# Altium footprint library 晶振.PcbLib: 10 footprints
Each footprint in its own frame and in the unit in brackets; x right, y up, seen from the top. Pads: shape width x height; smd on the part's side, far side on the other; paste and mask are expansions set on the pad; w line width, h text height; cw(c..) or ccw(c..) is an arc to the next point about the centre after c.
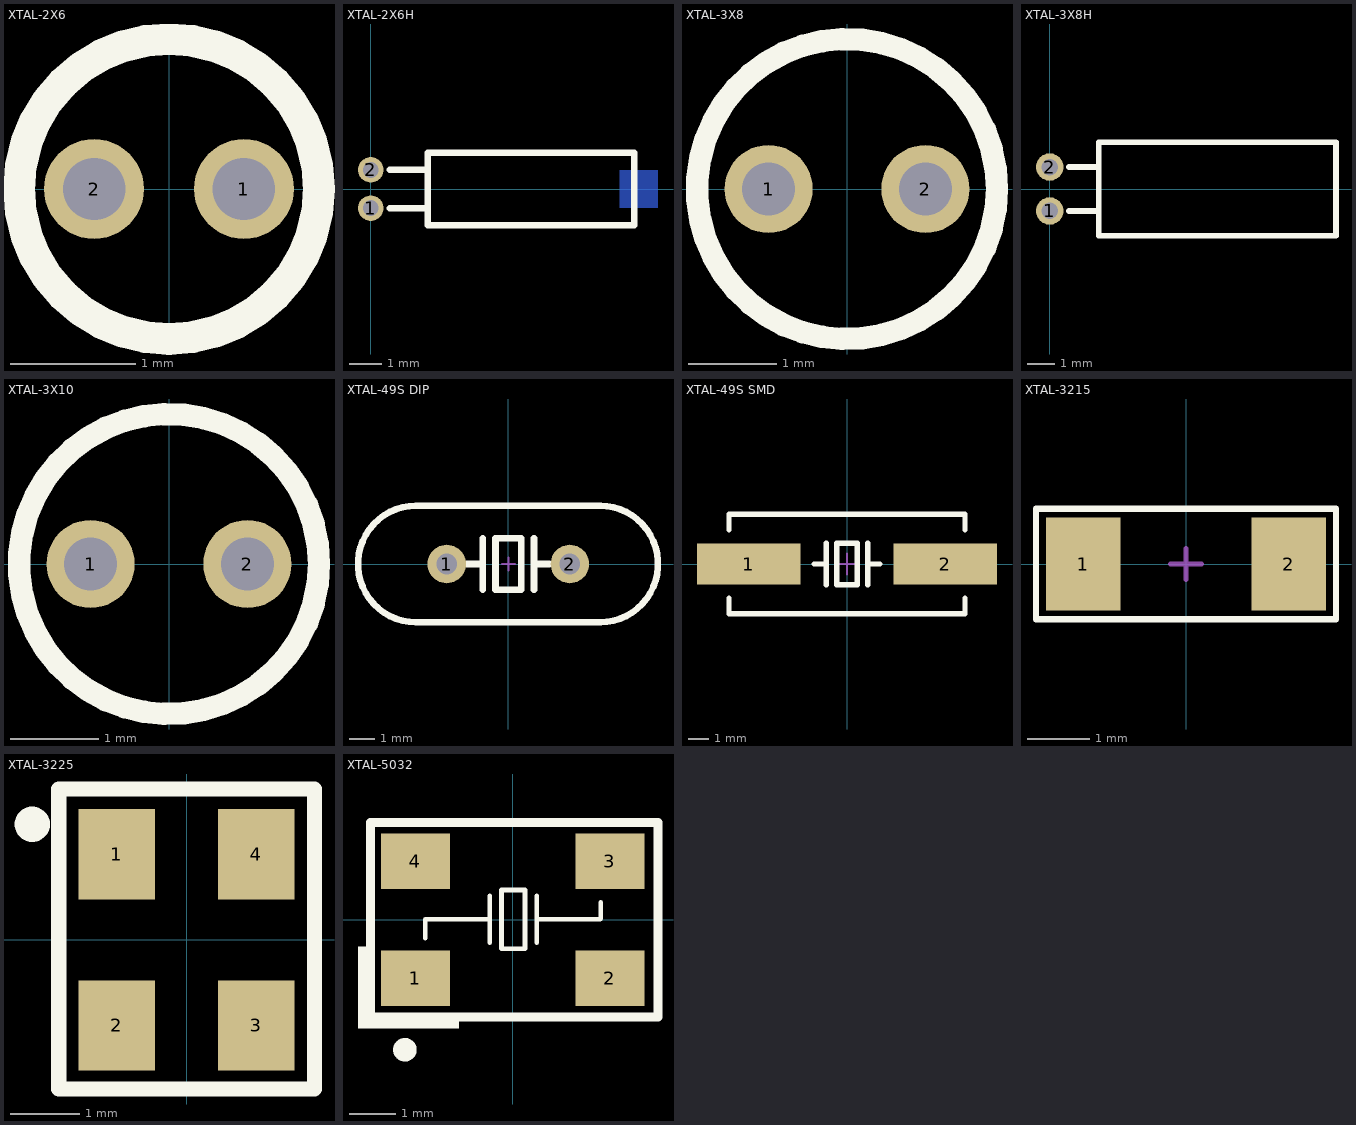
[diagram p0: the footprints below, top view; thin cyan lines are the x and y axes]

## XTAL-2X6 [mm]
pads (2):
  round 0.8 hole 0.5: 1(0.6,0) 2(-0.6,0)
Top Overlay:
  circle w0.254: c0,0 r1.2
3D body "2x6.STEP": height 6.4, standoff -4.9, extent -1.05,-1.05 1.05,1.05

## XTAL-2X6H [mm]
pads (2):
  round 0.8 hole 0.5: 1(0,-0.6) 2(0,0.6)
Bottom Layer:
  rectangle: 7.8,-0.6 9,0.6
Top Overlay:
  lines w0.203: 0.6,-0.6 1.778,-0.6 ; 0.6,0.6 1.778,0.6 ; 1.778,-1.143 8.255,-1.143 8.255,1.143 1.778,1.143 1.778,-1.143
3D body "2x6H.STEP": height 1.9, standoff -2.15, extent -0.18,-1.075 8.18,1.025

## XTAL-3X8 [mm]
pads (2):
  round 1 hole 0.6: 1(-0.889,0) 2(0.889,0)
Top Overlay:
  circle w0.254: c0,0 r1.7
3D body "3x8.STEP": height 8.4, standoff -4.9, extent -1.5,-1.5 1.5,1.5

## XTAL-3X8H [mm]
pads (2):
  round 1 hole 0.6: 1(0,-0.8) 2(0,0.8)
Top Overlay:
  lines w0.203: 0.7,-0.8 1.778,-0.8 ; 0.7,0.8 1.778,0.8 ; 1.778,-1.7 1.778,1.7 10.414,1.7 10.414,-1.7 1.778,-1.7
3D body "3x6h.STEP": height 2.9, standoff -3.1, extent -0.18,-1.5 10.18,1.5

## XTAL-3X10 [mm]
pads (2):
  round 1 hole 0.6: 1(-0.889,0) 2(0.889,0)
Top Overlay:
  circle w0.254: c0,0 r1.7
3D body "3x10.STEP": height 10.2, standoff -4.9, extent -1.5,-1.5 1.5,1.5

## XTAL-49S DIP [mm]
pads (2):
  round 1.5 hole 0.8: 1(-2.4,0) 2(2.4,0)
Top Overlay:
  lines w0.254: -1.6,0 -1,0 ; -1,-1 -1,1 ; 1,-1 1,1 ; 1,0 1.6,0 ; 3.575,-2.275 ccw(c3.556,0) 3.575,2.275 ; 3.6,-2.275 -3.6,-2.275 cw(c-3.581,0) -3.6,2.275 3.6,2.275 ; -0.5,-1 0.5,-1 0.5,1 -0.5,1 -0.5,-1
Mechanical 15:
  lines w0.076: -0.254,0 0.254,0 ; 0,-0.254 0,0.254
3D body "SW3dPS-HP49US.STEP": height 3.5, standoff -4, extent -5.675,-2.35 5.675,2.3

## XTAL-49S SMD [mm]
pads (2):
  rect 5x2 smd: 1(-4.75,0) 2(4.75,0)
Top Overlay:
  lines w0.254: -5.7,-1.65 -5.7,-2.4 5.7,-2.4 5.7,-1.65 ; -5.7,1.65 -5.7,2.4 5.7,2.4 5.7,1.65 ; -1.6,0 -1,0 ; -1,-1 -1,1 ; 1,-1 1,1 ; 1,0 1.6,0 ; -0.5,-1 0.5,-1 0.5,1 -0.5,1 -0.5,-1
Mechanical 15:
  lines w0.076: -0.508,0 0.508,0 ; 0,-0.508 0,0.508
3D body "User Library-hc49_cystal.STEP": height 4, standoff 0, extent -6.7,-2.462 6.7,2.438

## XTAL-3215 [mm]
pads (2):
  rect 1.2x1.5 smd: 1(-1.65,0) 2(1.65,0)
Top Overlay:
  lines w0.1: -2.413,-0.889 2.413,-0.889 2.413,0.889 -2.413,0.889 -2.413,-0.889
Mechanical 15:
  lines w0.076: -0.254,0 0.254,0 ; 0,-0.254 0,0.254
3D body "User Library-X3215.STEP": height 0.81, standoff 0, extent -1.6,-0.75 1.6,0.75

## XTAL-3225 [mm]
pads (4):
  rect 1.1x1.3 smd: 1(-1.003,1.232) 2(-1.003,-1.232) 3(1.003,-1.232) 4(1.003,1.232)
Top Overlay:
  circle w0.254: c-2.222,1.664 r0.127
  lines w0.22: -1.841,-2.146 -1.841,2.172 1.841,2.172 1.841,-2.146 -1.841,-2.146
3D body "XTAL-3225.STEP": height 0.8, standoff 0, extent -1.288,-1.587 1.212,1.613

## XTAL-5032 [mm]
pads (4):
  rect 1.5x1.2 smd: 1(-2.108,-1.27) 2(2.108,-1.27) 3(2.108,1.27) 4(-2.108,1.27)
Top Overlay:
  circle w0.254: c-2.337,-2.819 r0.127
  rectangle: -3.353,-2.362 -3.175,-0.584
  rectangle: -3.175,-2.362 -1.168,-2.108
  lines w0.1: -1.897,-0.406 -1.897,0.008 -0.496,0.008 ; -0.496,-0.5 -0.496,0.516 ; 0.52,-0.5 0.52,0.516 ; 0.52,0.008 1.902,0.008 1.905,0.016 1.905,0.381 ; -0.242,-0.627 0.266,-0.627 0.266,-0.309 0.266,0.326 0.266,0.643 -0.242,0.643 -0.242,-0.627
  lines w0.2: -3.079,-2.108 -3.079,2.108 3.15,2.108 3.15,-2.108 -3.079,-2.108
3D body "User Library-CRYSTALSMD5X32.STEP": height 1, standoff 0, extent -2.5,-1.6 2.5,1.6